# EAGLE library part TSW-120-02-S-S (library con-samtec)
THROUGH-HOLE .025" SQ POST HEADER Source: Samtec TSW.pdf
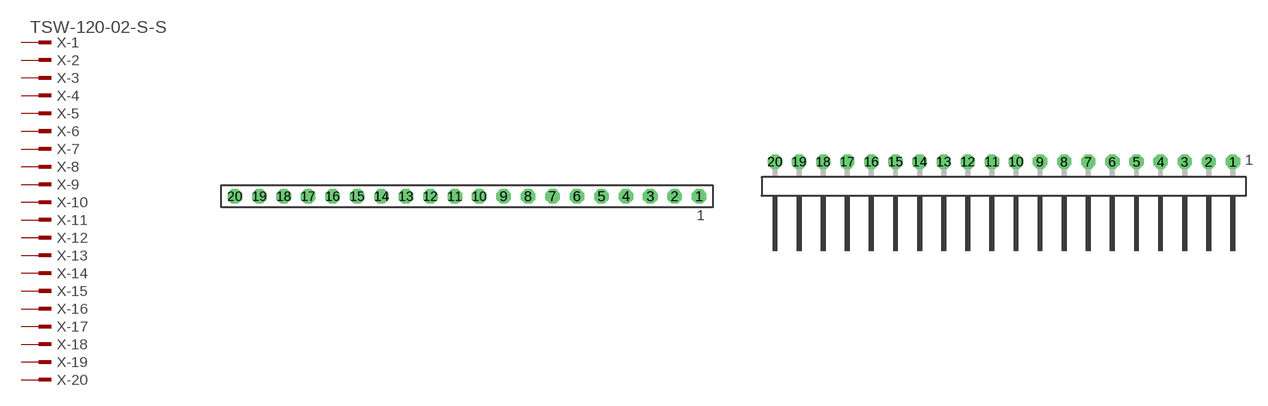
[diagram p226: symbol with the pads of TSW-120-02-S-S; footprints TSW-120-02-S-S, TSW-120-02-S-S-RA]

Designator prefix X; gates -1=MPINV -2=MPIN -3=MPIN -4=MPIN -5=MPIN -6=MPIN -7=MPIN -8=MPIN -9=MPIN -10=MPIN -11=MPIN -12=MPIN -13=MPIN -14=MPIN -15=MPIN -16=MPIN -17=MPIN -18=MPIN -19=MPIN -20=MPIN

## TSW-120-02-S-S  [TSW-120-02-S-S]
1  -1:1  pas
2  -2:1  pas
3  -3:1  pas
4  -4:1  pas
5  -5:1  pas
6  -6:1  pas
7  -7:1  pas
8  -8:1  pas
9  -9:1  pas
10  -10:1  pas
11  -11:1  pas
12  -12:1  pas
13  -13:1  pas
14  -14:1  pas
15  -15:1  pas
16  -16:1  pas
17  -17:1  pas
18  -18:1  pas
19  -19:1  pas
20  -20:1  pas

## TSW-120-02-S-S-RA  [TSW-120-02-S-S-RA]
Pads as for TSW-120-02-S-S

## Footprint TSW-120-02-S-S (pad centres in mm)
THROUGH-HOLE .025" SQ POST HEADER Source: Samtec TSW.pdf
drill 1 pad 1.5 octagon: 1 24.13,0; 2 21.59,0; 3 19.05,0; 4 16.51,0; 5 13.97,0; 6 11.43,0; 7 8.89,0; 8 6.35,0; 9 3.81,0; 10 1.27,0; 11 -1.27,0; 12 -3.81,0; 13 -6.35,0; 14 -8.89,0; 15 -11.43,0; 16 -13.97,0; 17 -16.51,0; 18 -19.05,0; 19 -21.59,0; 20 -24.13,0

## Footprint TSW-120-02-S-S-RA (pad centres in mm)
THROUGH-HOLE .025" SQ POST HEADER Source: Samtec TSW.pdf
drill 1 pad 1.5 octagon: 1 24.13,1.524; 2 21.59,1.524; 3 19.05,1.524; 4 16.51,1.524; 5 13.97,1.524; 6 11.43,1.524; 7 8.89,1.524; 8 6.35,1.524; 9 3.81,1.524; 10 1.27,1.524; 11 -1.27,1.524; 12 -3.81,1.524; 13 -6.35,1.524; 14 -8.89,1.524; 15 -11.43,1.524; 16 -13.97,1.524; 17 -16.51,1.524; 18 -19.05,1.524; 19 -21.59,1.524; 20 -24.13,1.524